# Altium schematic symbol library 74HC164.SchLib: 1 symbol
Pins are listed as number, name and electrical type; pins without a type are passive.

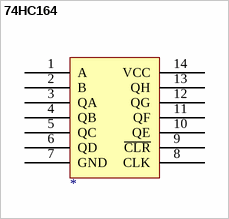
[diagram p0: symbol 74HC164]

## 74HC164
designator ?
pins: 1 A, 2 B, 3 QA, 4 QB, 5 QC, 6 QD, 7 GND, 8 CLK, 9 ~{CLR}, 10 QE, 11 QF, 12 QG, 13 QH, 14 VCC